# EAGLE library part AD8066* (library 0-ADI-variety)
Dual 145MHz FastFET OPAMP with rail-to-rail outputs
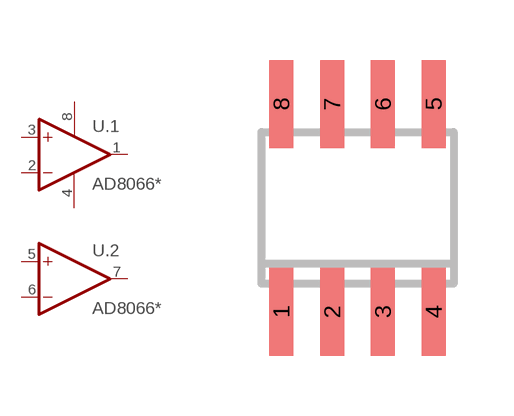
[diagram p1: symbol with the pads of SO08; footprint SO08]

Designator prefix U; gates .1=OPAMP .2=OPAMP G$3=PWR+-

## AD8066AR  [SO08]
1  .1:OUT  out
2  .1:-IN  in
3  .1:+IN  in
4  G$3:V-  pwr
5  .2:+IN  in
6  .2:-IN  in
7  .2:OUT  out
8  G$3:V+  pwr

## Footprint SO08 (pad centres in mm)
Small Outline Package 8 NS Package M08A
smd 0.6 x 2.2: 1 -1.905,-2.6; 2 -0.635,-2.6; 3 0.635,-2.6; 4 1.905,-2.6; 5 1.905,2.6; 6 0.635,2.6; 7 -0.635,2.6; 8 -1.905,2.6